# Altium schematic symbol library LX1-PowerSelect.SchLib: 3 symbols
Pins are listed as number, name and electrical type; pins without a type are passive.

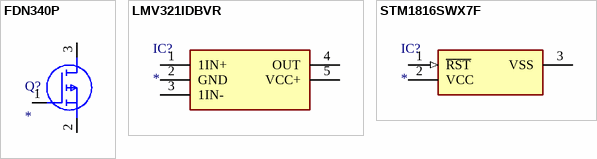
[diagram p0: symbols FDN340P to STM1816SWX7F]

## FDN340P
designator Q?
MOSFET (P-Channel); Manufacturer_Name: ON Semiconductor; Manufacturer_Part_Number: FDN340P; Datasheet Link: https://www.onsemi.com/pub/Collateral/FDN340P-D.PDF; Height: 1.12mm; Mouser Part Number: 512-FDN340P; Mouser Price/Stock: https://www.mouser.com/Search/Refine.aspx?Keyword=512-FDN340P; RS Part Number: 6710435P; RS Price/Stock: http://uk.rs-online.com/web/p/products/6710435P
footprint SOT95P237X112-3N
pins: 1 G, 2 S, 3 D

## LMV321IDBVR
designator IC?
Integrated Circuit; Manufacturer_Name: Texas Instruments; Manufacturer_Part_Number: LMV321IDBVR; Datasheet Link: http://www.ti.com/lit/gpn/lmv321; Height: 1.45mm; Mouser Part Number: 595-LMV321IDBVR; Mouser Price/Stock: https://www.mouser.com/Search/Refine.aspx?Keyword=595-LMV321IDBVR
footprint SOT95P280X145-5N
pins: 1 1IN+, 2 GND, 3 1IN-, 4 OUT, 5 VCC+

## STM1816SWX7F
designator IC?
Integrated Circuit; Manufacturer_Name: STMicroelectronics; Manufacturer_Part_Number: STM1816SWX7F; Allied_Number: 70014047; Datasheet Link: http://www.st.com/st-web-ui/static/active/en/resource/technical/document/datasheet/CD00059921.pdf; Height: 1.12mm; Mouser Part Number: 511-STM1816SWX7F; Mouser Price/Stock: https://www.mouser.com/Search/Refine.aspx?Keyword=511-STM1816SWX7F; RS Part Number: 6248264; RS Price/Stock: http://uk.rs-online.com/web/p/products/6248264; Allied Price/Stock: http://www.alliedelec.com/stmicroelectronics-stm1816swx7f/70014047/
footprint SOT103P237X112-3N
pins: 1 ~{RST} (in), 2 VCC (power), 3 VSS (power)